# EAGLE library part OASIS-7-SEG-DISPLAY (library synfinatic)
Oasis 7 Seg Display Available in 10 packs off ebay. Has a simple serial interface
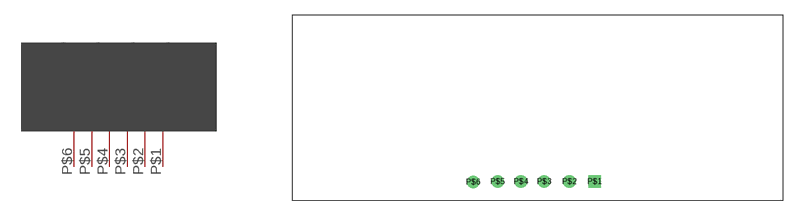
[diagram p5: symbol with the pads of OASIS-7-SEG-DISPLAY; footprint OASIS-7-SEG-DISPLAY]

Designator prefix -

## OASIS-7-SEG-DISPLAY  [OASIS-7-SEG-DISPLAY]
P$1  +5V
P$2  CS
P$3  CLK
P$4  DIN
P$5  DOUT
P$6  GND

## Footprint OASIS-7-SEG-DISPLAY (pad centres in mm)
Oasis TOFD-5465GGH-B 4 Digit LED with ST6961 Controller Available on eBay as a 10 pack for $10. More info: http://gtbtech.com/?p=528 https://github.com/buzzdavidson/OasisLED
drill 0.8 square: P$1 30.913,2
drill 0.8: P$2 28.33,2; P$3 25.747,2; P$4 23.365,2; P$5 20.983,2; P$6 18.483,1.95